# Altium schematic symbol library SCH - MCU - STM32 - ST MICROELECTRONICS STM32F101T(8-B)UX VFQFPN36.SchLib: 1 symbol
Pins are listed as number, name and electrical type; pins without a type are passive.

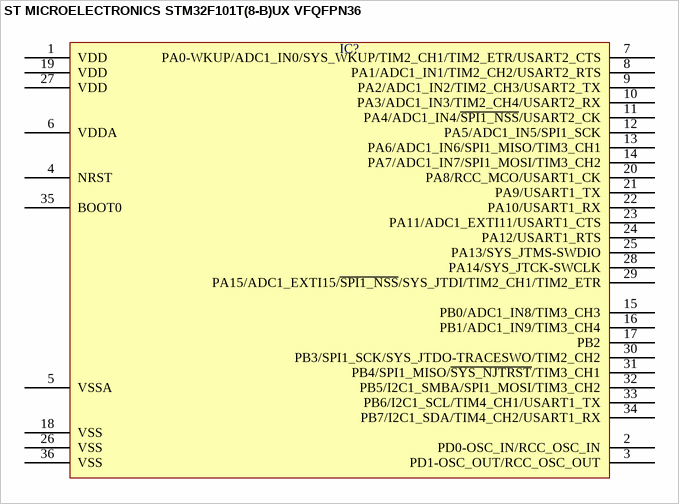
[diagram p0: symbol ST MICROELECTRONICS STM32F101T(8-B)UX VFQFPN36]

## ST MICROELECTRONICS STM32F101T(8-B)UX VFQFPN36
designator IC?  (value not drawn)
pins: 1 VDD, 2 PD0-OSC_IN/RCC_OSC_IN, 3 PD1-OSC_OUT/RCC_OSC_OUT, 4 NRST, 5 VSSA, 6 VDDA, 7 PA0-WKUP/ADC1_IN0/SYS_WKUP/TIM2_CH1/TIM2_ETR/USART2_CTS, 8 PA1/ADC1_IN1/TIM2_CH2/USART2_RTS, 9 PA2/ADC1_IN2/TIM2_CH3/USART2_TX, 10 PA3/ADC1_IN3/TIM2_CH4/USART2_RX, 11 PA4/ADC1_IN4/~{SPI1_NSS}/USART2_CK, 12 PA5/ADC1_IN5/SPI1_SCK, 13 PA6/ADC1_IN6/SPI1_MISO/TIM3_CH1, 14 PA7/ADC1_IN7/SPI1_MOSI/TIM3_CH2, 15 PB0/ADC1_IN8/TIM3_CH3, 16 PB1/ADC1_IN9/TIM3_CH4, 17 PB2, 18 VSS, 19 VDD, 20 PA8/RCC_MCO/USART1_CK, 21 PA9/USART1_TX, 22 PA10/USART1_RX, 23 PA11/ADC1_EXTI11/USART1_CTS, 24 PA12/USART1_RTS, 25 PA13/SYS_JTMS-SWDIO, 26 VSS, 27 VDD, 28 PA14/SYS_JTCK-SWCLK, 29 PA15/ADC1_EXTI15/~{SPI1_NSS}/SYS_JTDI/TIM2_CH1/TIM2_ETR, 30 PB3/SPI1_SCK/SYS_JTDO-TRACESWO/TIM2_CH2, 31 PB4/SPI1_MISO/~{SYS_NJTRST}/TIM3_CH1, 32 PB5/I2C1_SMBA/SPI1_MOSI/TIM3_CH2, 33 PB6/I2C1_SCL/TIM4_CH1/USART1_TX, 34 PB7/I2C1_SDA/TIM4_CH2/USART1_RX, 35 BOOT0, 36 VSS